# Altium footprint library mylib.PcbLib: 3 footprints
Each footprint in its own frame and in the unit in brackets; x right, y up, seen from the top. Pads: shape width x height; smd on the part's side, far side on the other; paste and mask are expansions set on the pad; w line width, h text height; cw(c..) or ccw(c..) is an arc to the next point about the centre after c.
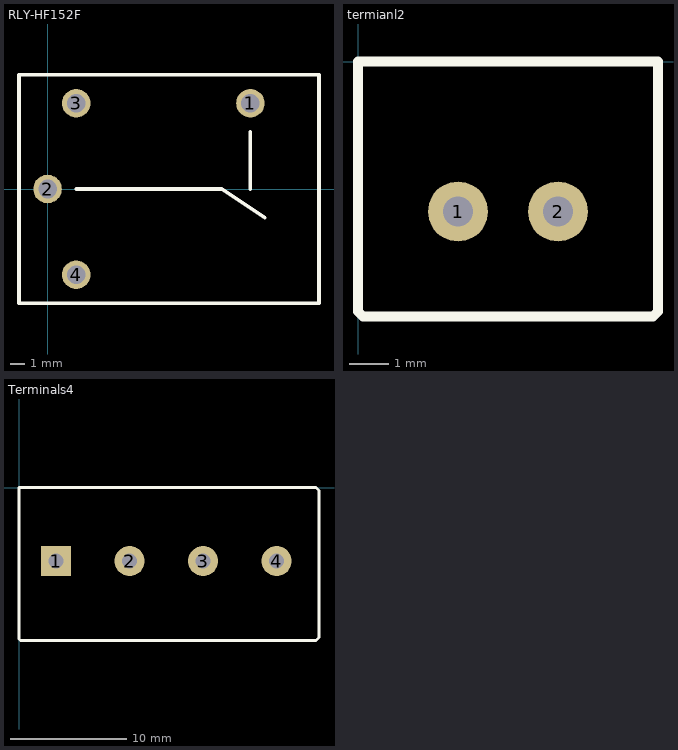
[diagram p0: the footprints below, top view; thin cyan lines are the x and y axes]

## RLY-HF152F [mm]
pads (4):
  round 2 hole 1.3: 1(14.2,6) 2(0,0) 3(2,6) 4(2,-6)
Top Overlay:
  lines w0.254: 2,0 12.2,0 15.2,-2 ; 14.2,0 14.2,4 ; -2,-8 -2,8 19,8 19,-8 -2,-8

## termianl2 [mil]
pads (2):
  round 60 hole 30: 1(100,-150) 2(200,-150)
Top Overlay:
  lines w10: 0,-250 0,0 300,0 300,-250 295,-255 5,-255 0,-250

## Terminals4 [mm]
pads (4):
  rect 2.6x2.6 hole 1.3: 1(3.2,-6.35)
  round 2.6 hole 1.3: 2(9.55,-6.35) 3(15.9,-6.35) 4(22.25,-6.35)
Top Overlay:
  lines w0.254: 0,-13.081 0.127,-13.208 0.508,-13.208 25.654,-13.208 25.908,-12.954 25.908,-0.254 25.654,0 0,0 0,-13.081